# EAGLE library part AT24C08 (library AT24C08)
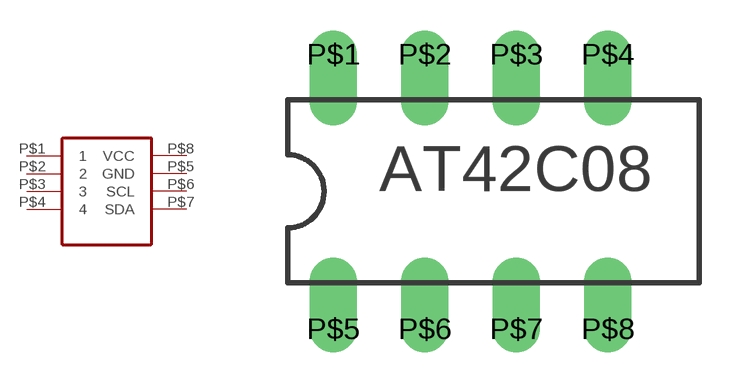
[diagram p0: symbol with the pads of AT24C08; footprint AT24C08]

Designator prefix -

## AT24C08L  [AT24C08]
P$1  1
P$2  2
P$3  3
P$4  4
P$5  GND
P$6  SCL
P$7  SDA
P$8  VCC

## Footprint AT24C08 (pad centres in mm)
drill 0.813 offset: P$1 -3.81,3.81; P$2 -1.27,3.81; P$3 1.27,3.81; P$4 3.81,3.81; P$5 -3.81,-3.81; P$6 -1.27,-3.81; P$7 1.27,-3.81; P$8 3.81,-3.81